# Altium integrated library Interface_ICs.IntLib: 17 symbols
Pins are listed as number, name and electrical type; pins without a type are passive.

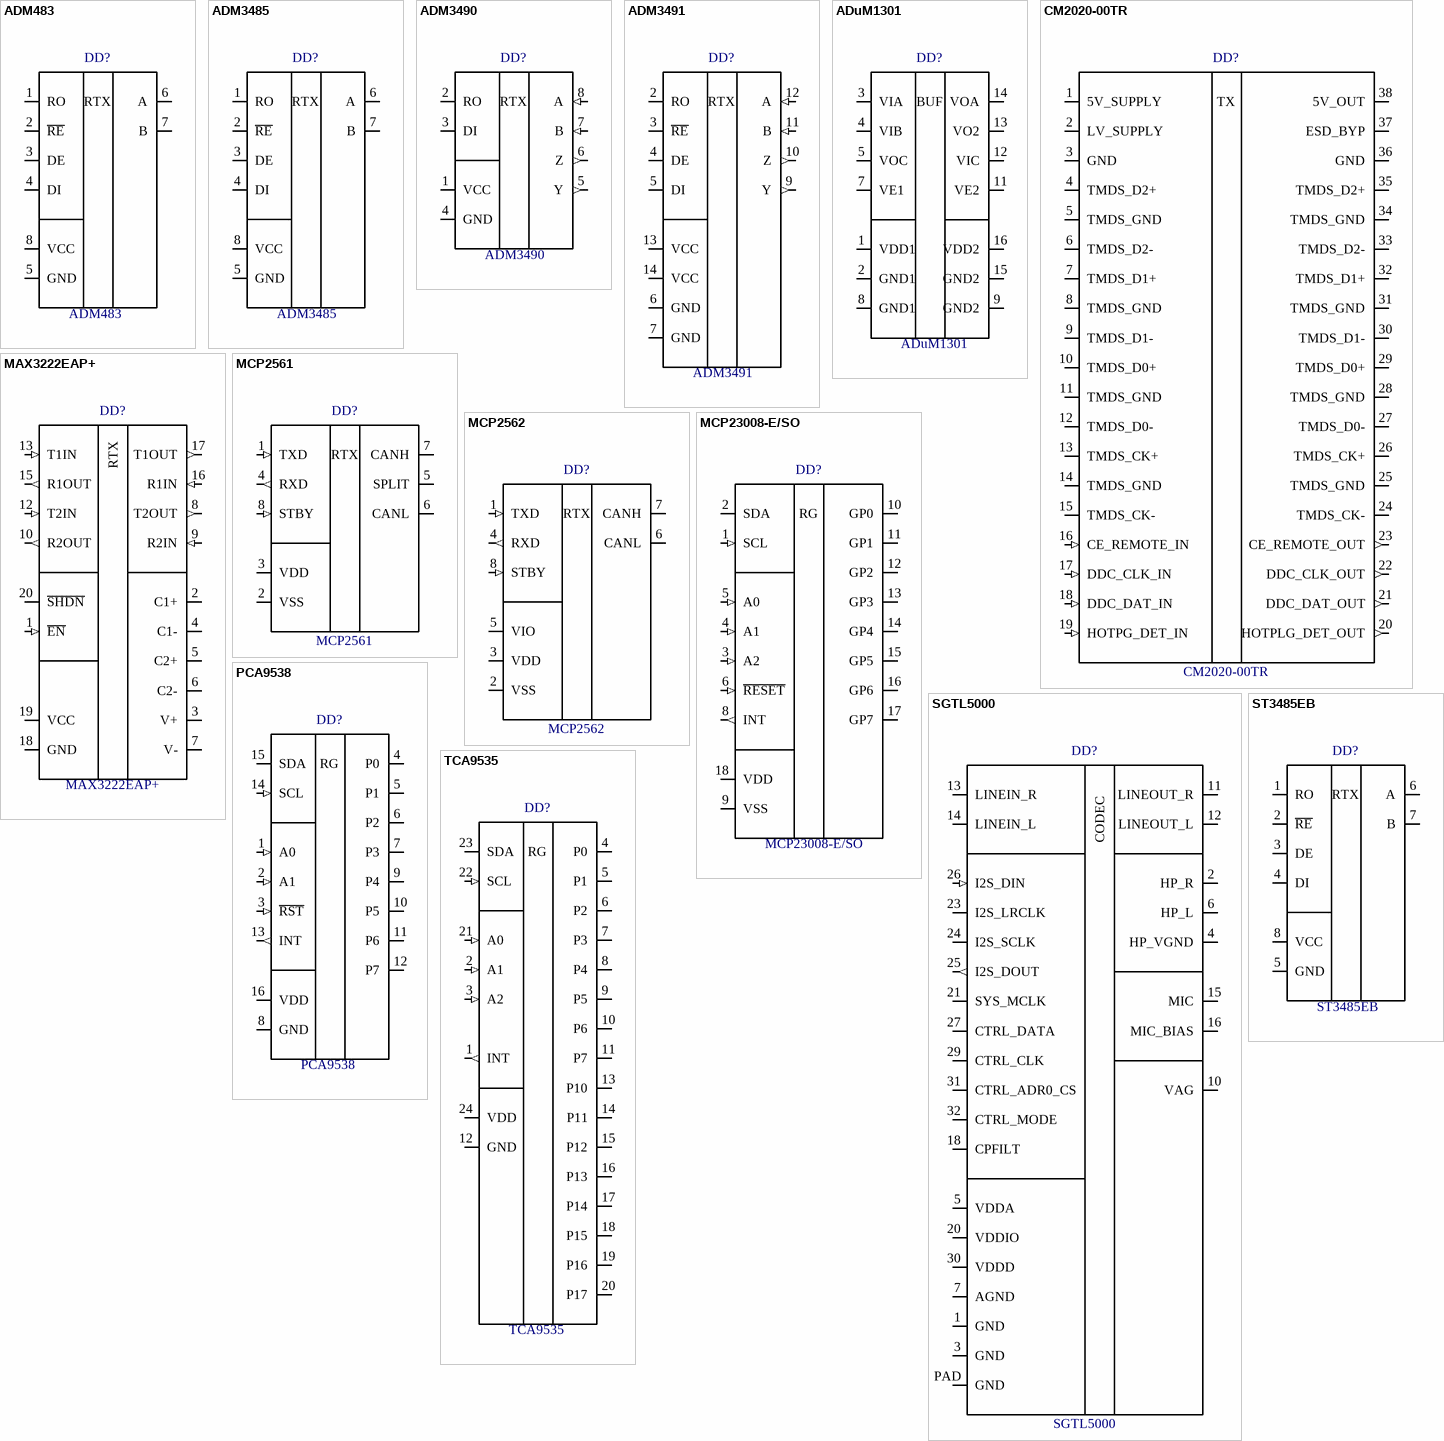
[diagram p0: symbols ADM483 to TCA9535]

## ADM483
designator DD?
Half Duplex RS-485/RS-422 Transceiver
footprint SOIC-8 (SOIC, 8-Leads, Body 4,90x3,90mm, Pitch 1,27mm, IPC Low Density)
pins: 1 RO, 2 ~{RE}, 3 DE, 4 DI, 5 GND, 6 A, 7 B, 8 VCC
text: RTX

## ADM3485
designator DD?
Half Duplex RS-485/RS-422 Transceiver 3.3V
footprint SOIC-8 (SOIC, 8-Leads, Body 4,90x3,90mm, Pitch 1,27mm, IPC Low Density)
pins: 1 RO, 2 ~{RE}, 3 DE, 4 DI, 5 GND, 6 A, 7 B, 8 VCC
text: RTX

## ADM3490
designator DD?
Full Duplex RS-485/RS-422 Transceiver 3.3V
footprint SOIC-8 (SOIC, 8-Leads, Body 4,90x3,90mm, Pitch 1,27mm, IPC Low Density)
pins: 1 VCC, 2 RO, 3 DI, 4 GND, 5 Y (out), 6 Z (out), 7 B (in), 8 A (in)
text: RTX

## ADM3491
designator DD?
Full Duplex RS-485/RS-422 Transceiver 3.3V
footprint SOIC-14 (SOIC, 14-Leads, Body 8,65x3,90mm, Pitch 1,27mm, IPC Low Density)
pins: 2 RO, 3 ~{RE}, 4 DE, 5 DI, 6 GND, 7 GND, 9 Y (out), 10 Z (out), 11 B (in), 12 A (in), 13 VCC, 14 VCC
text: RTX

## ADuM1301
designator DD?
Digital Isolators Digital Triple-CH
footprint SOIC-16-W (SOIC, 16-Leads, Body 10,30x7,50mm, Pitch 1,27mm, IPC Low Density)
pins: 1 VDD1, 2 GND1, 3 VIA, 4 VIB, 5 VOC, 7 VE1, 8 GND1, 9 GND2, 11 VE2, 12 VIC, 13 VO2, 14 VOA, 15 GND2, 16 VDD2
text: BUF

## CM2020-00TR
designator DD?
HDMI Transmitter Port Protection and Interface Device
footprint TSSOP-38
pins: 1 5V_SUPPLY (power), 2 LV_SUPPLY (power), 3 GND (power), 4 TMDS_D2+, 5 TMDS_GND (power), 6 TMDS_D2-, 7 TMDS_D1+, 8 TMDS_GND (power), 9 TMDS_D1-, 10 TMDS_D0+, 11 TMDS_GND (power), 12 TMDS_D0-, 13 TMDS_CK+, 14 TMDS_GND (power), 15 TMDS_CK-, 16 CE_REMOTE_IN (in), 17 DDC_CLK_IN (in), 18 DDC_DAT_IN (in), 19 HOTPG_DET_IN (in), 20 HOTPLG_DET_OUT (out), 21 DDC_DAT_OUT (out), 22 DDC_CLK_OUT (out), 23 CE_REMOTE_OUT (out), 24 TMDS_CK-, 25 TMDS_GND (power), 26 TMDS_CK+, 27 TMDS_D0-, 28 TMDS_GND (power), 29 TMDS_D0+, 30 TMDS_D1-, 31 TMDS_GND (power), 32 TMDS_D1+, 33 TMDS_D2-, 34 TMDS_GND (power), 35 TMDS_D2+, 36 GND (power), 37 ESD_BYP (power), 38 5V_OUT (power)
text: TX

## MAX3222EAP+
designator DD?
RS-232-IC-Interface 3.0V to 5.5V, Low-Power, up to 1Mbps, True RS-232 Transceivers; Manufacturer: Maxim Integrated; 1Ccode: М00032411; 1Cname: MAX3222EAP Maxim; 1Cgroup: 01010102; 1Carticle: 7551; Name: Приемопередатчик MAX3222EAP+; Case: SSOP-20; 1CfullName: MAX3222EAP Maxim; PartNumber: MAX3222EAP+; ComponentLink1Description: DatasheetLink; ComponentLink1URL: https://www.analog.com/media/en/technical-documentation/data-sheets/MAX3222-MAX3241.pdf
footprint SSOP-20
pins: 1 ~{EN} (in), 2 C1+, 3 V+, 4 C1-, 5 C2+, 6 C2-, 7 V-, 8 T2OUT (out), 9 R2IN (in), 10 R2OUT (out), 12 T2IN (in), 13 T1IN (in), 15 R1OUT (out), 16 R1IN (in), 17 T1OUT (out), 18 GND (power), 19 VCC (power), 20 ~{SHDN}
text: RTX

## MCP2561
designator DD?
High Speed CAN Transceiver
footprint SOIC-8 (SOIC, 8-Leads, Body 4,90x3,90mm, Pitch 1,27mm, IPC Low Density)
pins: 1 TXD (in), 2 VSS (power), 3 VDD (power), 4 RXD (out), 5 SPLIT (power), 6 CANL, 7 CANH, 8 STBY (in)
text: RTX

## MCP2562
designator DD?
High Speed CAN Transceiver
footprint SOIC-8 (SOIC, 8-Leads, Body 4,90x3,90mm, Pitch 1,27mm, IPC Low Density)
pins: 1 TXD (in), 2 VSS (power), 3 VDD (power), 4 RXD (out), 5 VIO (power), 6 CANL, 7 CANH, 8 STBY (in)
text: RTX

## MCP23008-E/SO
designator DD?
8-Bit I/O Expander with I2C Interface
footprint SOIC-18-W (SOIC, 18-Leads, Body 11,55x7,50mm, Pitch 1,27mm, IPC Low Density)
pins: 1 SCL (in), 2 SDA (io), 3 A2 (in), 4 A1 (in), 5 A0 (in), 6 ~{RESET} (in), 8 INT (out), 9 VSS (power), 10 GP0 (io), 11 GP1 (io), 12 GP2 (io), 13 GP3 (io), 14 GP4 (io), 15 GP5 (io), 16 GP6 (io), 17 GP7 (io), 18 VDD (power)
text: RG

## PCA9538
designator DD?
Remote 8-Bit I2C & SMBus Lo-Pwr I/O Expander
footprint SOIC-16-W (SOIC, 16-Leads, Body 10,30x7,50mm, Pitch 1,27mm, IPC Low Density)
pins: 1 A0 (in), 2 A1 (in), 3 ~{RST} (in), 4 P0 (io), 5 P1 (io), 6 P2 (io), 7 P3 (io), 8 GND (power), 9 P4 (io), 10 P5 (io), 11 P6 (io), 12 P7 (io), 13 INT (out), 14 SCL (in), 15 SDA (io), 16 VDD (power)
text: RG

## SGTL5000
designator DD?
Ultra-Low-Power Stereo  Codec with Headphone Amp
footprint QFN-32 (QFN, 32-Leads, Body 5.00x5.00mm, Pitch 0.50mm, Thermal Pad 3.40x3.40mm, IPC Low Density)
pins: 1 GND (power), 2 HP_R, 3 GND (power), 4 HP_VGND (power), 5 VDDA (power), 6 HP_L, 7 AGND (power), 10 VAG, 11 LINEOUT_R, 12 LINEOUT_L, 13 LINEIN_R, 14 LINEIN_L, 15 MIC, 16 MIC_BIAS, 18 CPFILT, 20 VDDIO (power), 21 SYS_MCLK, 23 I2S_LRCLK, 24 I2S_SCLK, 25 I2S_DOUT (out), 26 I2S_DIN (in), 27 CTRL_DATA, 29 CTRL_CLK, 30 VDDD (power), 31 CTRL_ADR0_CS, 32 CTRL_MODE, PAD GND (power)
text: CODEC

## ST3485EB
designator DD?
Half Duplex RS-485/RS-422 Transceiver 3.3V
footprint SOIC-8 (SOIC, 8-Leads, Body 4,90x3,90mm, Pitch 1,27mm, IPC Low Density)
pins: 1 RO, 2 ~{RE}, 3 DE, 4 DI, 5 GND, 6 A, 7 B, 8 VCC
text: RTX

## TCA9535
designator DD?
Low-Voltage 16-Bit I2C & SMBus Lo-Pwr I/O Expander
footprint TSSOP-24
pins: 1 INT (out), 2 A1 (in), 3 A2 (in), 4 P0 (io), 5 P1 (io), 6 P2 (io), 7 P3 (io), 8 P4 (io), 9 P5 (io), 10 P6 (io), 11 P7 (io), 12 GND (power), 13 P10 (io), 14 P11 (io), 15 P12 (io), 16 P13 (io), 17 P14 (io), 18 P15 (io), 19 P16 (io), 20 P17 (io), 21 A0 (in), 22 SCL (in), 23 SDA (io), 24 VDD (power)
text: RG

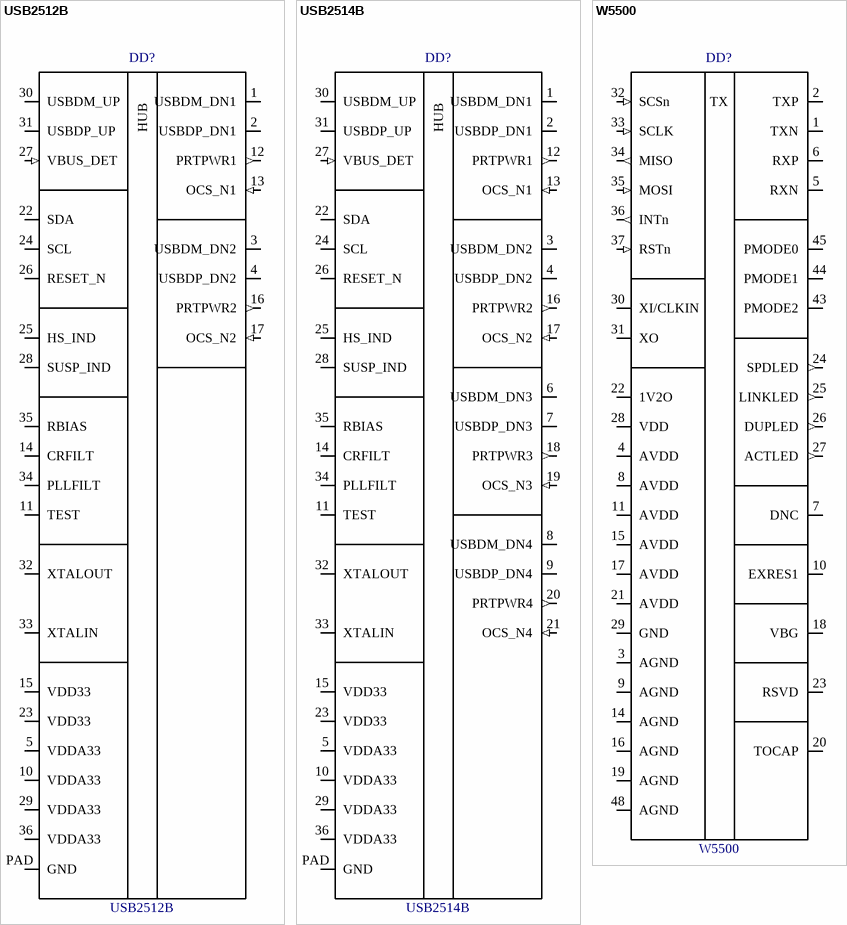
[diagram p1: symbols USB2512B to W5500]

## USB2512B
designator DD?
USB 2.0 Hi-Speed Hub Controller
footprint QFN-36 (QFN, 36-Leads, Body 6.00x6.00mm, Pitch 0.50mm, Thermal Pad 3.70x3.70mm, IPC Low Density)
pins: 1 USBDM_DN1, 2 USBDP_DN1, 3 USBDM_DN2, 4 USBDP_DN2, 5 VDDA33 (power), 10 VDDA33 (power), 11 TEST, 12 PRTPWR1 (out), 13 OCS_N1 (in), 14 CRFILT, 15 VDD33 (power), 16 PRTPWR2 (out), 17 OCS_N2 (in), 22 SDA, 23 VDD33 (power), 24 SCL, 25 HS_IND, 26 RESET_N, 27 VBUS_DET (in), 28 SUSP_IND, 29 VDDA33 (power), 30 USBDM_UP, 31 USBDP_UP, 32 XTALOUT, 33 XTALIN, 34 PLLFILT, 35 RBIAS, 36 VDDA33 (power), PAD GND (power)
text: HUB

## USB2514B
designator DD?
USB 2.0 Hi-Speed Hub Controller
footprint QFN-36 (QFN, 36-Leads, Body 6.00x6.00mm, Pitch 0.50mm, Thermal Pad 3.70x3.70mm, IPC Low Density)
pins: 1 USBDM_DN1, 2 USBDP_DN1, 3 USBDM_DN2, 4 USBDP_DN2, 5 VDDA33 (power), 6 USBDM_DN3, 7 USBDP_DN3, 8 USBDM_DN4, 9 USBDP_DN4, 10 VDDA33 (power), 11 TEST, 12 PRTPWR1 (out), 13 OCS_N1 (in), 14 CRFILT, 15 VDD33 (power), 16 PRTPWR2 (out), 17 OCS_N2 (in), 18 PRTPWR3 (out), 19 OCS_N3 (in), 20 PRTPWR4 (out), 21 OCS_N4 (in), 22 SDA, 23 VDD33 (power), 24 SCL, 25 HS_IND, 26 RESET_N, 27 VBUS_DET (in), 28 SUSP_IND, 29 VDDA33 (power), 30 USBDM_UP, 31 USBDP_UP, 32 XTALOUT, 33 XTALIN, 34 PLLFILT, 35 RBIAS, 36 VDDA33 (power), PAD GND (power)
text: HUB

## W5500
designator DD?
Ethernet ICs 3in1 Enet Controller TCP/IP +MAC+PHY
footprint LQFP-48 (LQFP, 48-Leads, Body 7,00x7,00mm, Pitch 0,50mm, IPC Low Density)
pins: 1 TXN, 2 TXP, 3 AGND (power), 4 AVDD (power), 5 RXN, 6 RXP, 7 DNC, 8 AVDD (power), 9 AGND (power), 10 EXRES1, 11 AVDD (power), 14 AGND (power), 15 AVDD (power), 16 AGND (power), 17 AVDD (power), 18 VBG, 19 AGND (power), 20 TOCAP, 21 AVDD (power), 22 1V2O (power), 23 RSVD, 24 SPDLED (out), 25 LINKLED (out), 26 DUPLED (out), 27 ACTLED (out), 28 VDD (power), 29 GND (power), 30 XI/CLKIN, 31 XO, 32 SCSn (in), 33 SCLK (in), 34 MISO (out), 35 MOSI (in), 36 INTn (out), 37 RSTn (in), 43 PMODE2, 44 PMODE1, 45 PMODE0, 48 AGND (power)
text: TX